# Altium schematic symbol library VLCF5024T-100MR88-2.SchLib: 1 symbol
Pins are listed as number, name and electrical type; pins without a type are passive.

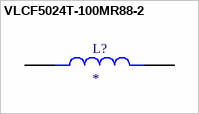
[diagram p0: symbol VLCF5024T-100MR88-2]

## VLCF5024T-100MR88-2
designator L?
MF: {'manufacturer': u'TDK'}; MP: VLCF5024T-100MR88-2; Package: None; Price: None; Availability: Unavailable; Value: *
footprint IND_VLCF5024T-100MR88-2
pins: 1, 2